# EAGLE library part MIC47100-1.0YML-TR (library RoboJackets-PowerICs)
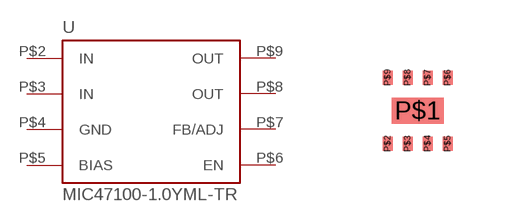
[diagram p14: symbol with the pads of DFN8_2X2MM; footprint DFN8_2X2MM]

Designator prefix -

## MIC47100-1.0YML-TR (DPKN: 576-3114-1-ND)  [DFN8_2X2MM]
P$2  IN
P$3  IN
P$4  GND
P$5  BIAS
P$6  EN
P$7  FB/ADJ
P$8  OUT
P$9  OUT

## Footprint DFN8_2X2MM (pad centres in mm)
smd 1.3 x 0.65: P$1 0,0
smd 0.25 x 0.35: P$2 -0.75,-0.825; P$3 -0.25,-0.825; P$4 0.25,-0.825; P$5 0.75,-0.825; P$6 0.75,0.825; P$7 0.25,0.825; P$8 -0.25,0.825; P$9 -0.75,0.825